# Altium schematic symbol library aiskylab-14Connectors-17HeadersAndWireHousing.SchLib: 206 symbols
Pins are listed as number, name and electrical type; pins without a type are passive.

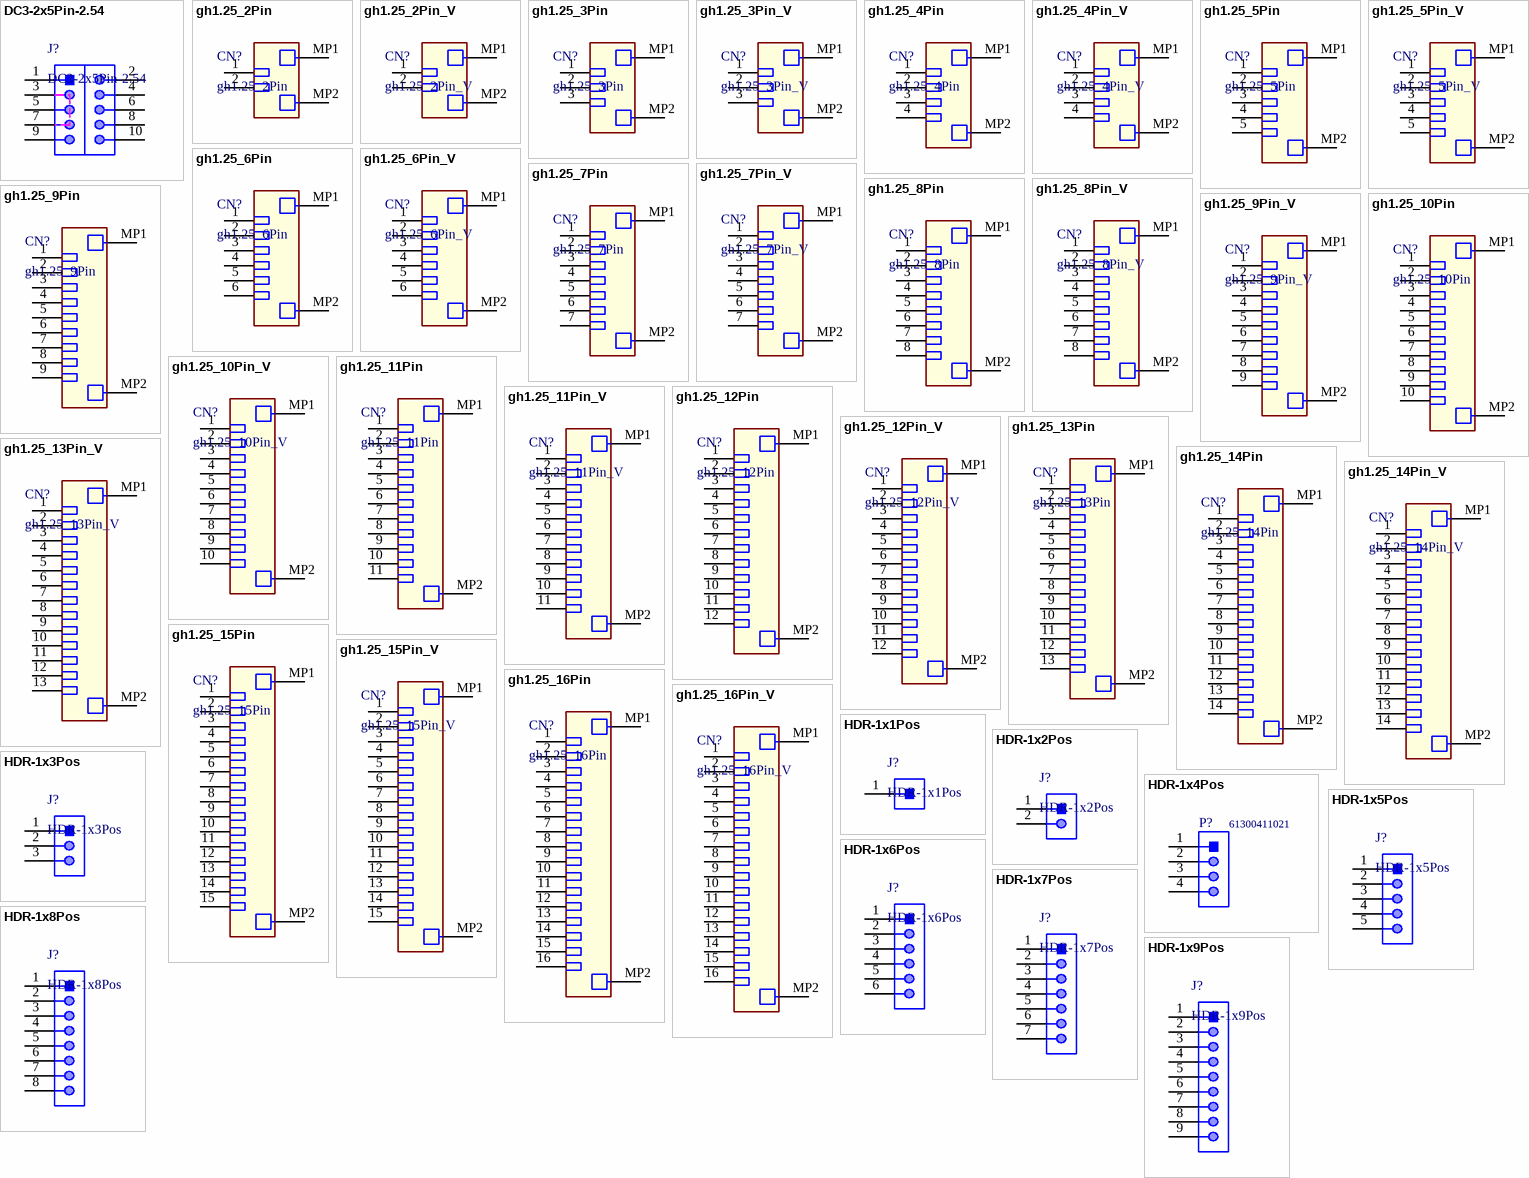
[diagram p0: symbols DC3-2x5Pin-2.54 to HDR-1x9Pos]

## DC3-2x5Pin-2.54
designator J?
2.54mm 双排2x5 10Pin 插座
footprint 3M_2510-6002RB (10 Contacts - Straight .100" x .100" Low Profile Four-Wall Header)
pins: 1, 2, 3, 4, 5, 6, 7, 8, 9, 10

## gh1.25_2Pin
designator CN?
贴片连接器
footprint GH1.25_SMD_R_2Pin
pins: 1, 2, MP1, MP2

## gh1.25_2Pin_V
designator CN?
贴片连接器
footprint GH1.25_SMD_V_2Pin
pins: 1, 2, MP1, MP2

## gh1.25_3Pin
designator CN?
贴片连接器
footprint GH1.25_SMD_R_3Pin
pins: 1, 2, 3, MP1, MP2

## gh1.25_3Pin_V
designator CN?
贴片连接器
footprint GH1.25_SMD_V_3Pin
pins: 1, 2, 3, MP1, MP2

## gh1.25_4Pin
designator CN?
贴片连接器
footprint GH1.25_SMD_R_4Pin
pins: 1, 2, 3, 4, MP1, MP2

## gh1.25_4Pin_V
designator CN?
贴片连接器
footprint GH1.25_SMD_V_4Pin
pins: 1, 2, 3, 4, MP1, MP2

## gh1.25_5Pin
designator CN?
贴片连接器
footprint GH1.25_SMD_R_5Pin
pins: 1, 2, 3, 4, 5, MP1, MP2

## gh1.25_5Pin_V
designator CN?
贴片连接器
footprint GH1.25_SMD_V_5Pin
pins: 1, 2, 3, 4, 5, MP1, MP2

## gh1.25_6Pin
designator CN?
贴片连接器
footprint GH1.25_SMD_R_6Pin
pins: 1, 2, 3, 4, 5, 6, MP1, MP2

## gh1.25_6Pin_V
designator CN?
贴片连接器
footprint GH1.25_SMD_V_6Pin
pins: 1, 2, 3, 4, 5, 6, MP1, MP2

## gh1.25_7Pin
designator CN?
贴片连接器
footprint GH1.25_SMD_R_7Pin
pins: 1, 2, 3, 4, 5, 6, 7, MP1, MP2

## gh1.25_7Pin_V
designator CN?
贴片连接器
footprint GH1.25_SMD_V_7Pin
pins: 1, 2, 3, 4, 5, 6, 7, MP1, MP2

## gh1.25_8Pin
designator CN?
贴片连接器
footprint GH1.25_SMD_R_8Pin
pins: 1, 2, 3, 4, 5, 6, 7, 8, MP1, MP2

## gh1.25_8Pin_V
designator CN?
贴片连接器
footprint GH1.25_SMD_V_8Pin
pins: 1, 2, 3, 4, 5, 6, 7, 8, MP1, MP2

## gh1.25_9Pin
designator CN?
贴片连接器
footprint GH1.25_SMD_R_9Pin
pins: 1, 2, 3, 4, 5, 6, 7, 8, 9, MP1, MP2

## gh1.25_9Pin_V
designator CN?
贴片连接器
footprint GH1.25_SMD_V_9Pin
pins: 1, 2, 3, 4, 5, 6, 7, 8, 9, MP1, MP2

## gh1.25_10Pin
designator CN?
贴片连接器
footprint GH1.25_SMD_R_10Pin
pins: 1, 2, 3, 4, 5, 6, 7, 8, 9, 10, MP1, MP2

## gh1.25_10Pin_V
designator CN?
贴片连接器
footprint GH1.25_SMD_V_10Pin
pins: 1, 2, 3, 4, 5, 6, 7, 8, 9, 10, MP1, MP2

## gh1.25_11Pin
designator CN?
贴片连接器
footprint GH1.25_SMD_R_11Pin
pins: 1, 2, 3, 4, 5, 6, 7, 8, 9, 10, 11, MP1, MP2

## gh1.25_11Pin_V
designator CN?
贴片连接器
footprint GH1.25_SMD_V_11Pin
pins: 1, 2, 3, 4, 5, 6, 7, 8, 9, 10, 11, MP1, MP2

## gh1.25_12Pin
designator CN?
贴片连接器
footprint GH1.25_SMD_R_12Pin
pins: 1, 2, 3, 4, 5, 6, 7, 8, 9, 10, 11, 12, MP1, MP2

## gh1.25_12Pin_V
designator CN?
贴片连接器
footprint GH1.25_SMD_V_12Pin
pins: 1, 2, 3, 4, 5, 6, 7, 8, 9, 10, 11, 12, MP1, MP2

## gh1.25_13Pin
designator CN?
贴片连接器
footprint GH1.25_SMD_R_13Pin
pins: 1, 2, 3, 4, 5, 6, 7, 8, 9, 10, 11, 12, 13, MP1, MP2

## gh1.25_13Pin_V
designator CN?
贴片连接器
footprint GH1.25_SMD_V_14Pin
pins: 1, 2, 3, 4, 5, 6, 7, 8, 9, 10, 11, 12, 13, MP1, MP2

## gh1.25_14Pin
designator CN?
贴片连接器
footprint GH1.25_SMD_R_14Pin
pins: 1, 2, 3, 4, 5, 6, 7, 8, 9, 10, 11, 12, 13, 14, MP1, MP2

## gh1.25_14Pin_V
designator CN?
贴片连接器
footprint GH1.25_SMD_V_14Pin
pins: 1, 2, 3, 4, 5, 6, 7, 8, 9, 10, 11, 12, 13, 14, MP1, MP2

## gh1.25_15Pin
designator CN?
贴片连接器
footprint GH1.25_SMD_R_15Pin
pins: 1, 2, 3, 4, 5, 6, 7, 8, 9, 10, 11, 12, 13, 14, 15, MP1, MP2

## gh1.25_15Pin_V
designator CN?
贴片连接器
footprint GH1.25_SMD_V_15Pin
pins: 1, 2, 3, 4, 5, 6, 7, 8, 9, 10, 11, 12, 13, 14, 15, MP1, MP2

## gh1.25_16Pin
designator CN?
贴片连接器
footprint GH1.25_SMD_R_16Pin
pins: 1, 2, 3, 4, 5, 6, 7, 8, 9, 10, 11, 12, 13, 14, 15, 16, MP1, MP2

## gh1.25_16Pin_V
designator CN?
贴片连接器
footprint GH1.25_SMD_V_16Pin
pins: 1, 2, 3, 4, 5, 6, 7, 8, 9, 10, 11, 12, 13, 14, 15, 16, MP1, MP2

## HDR-1x1Pos
designator J?
2.54mm 排针
footprint Pin Header 1x1 TH Pitch 2.54mm (PinHeader 1x1 TH Pitch 2.54mm)
footprint StampHole-1
pins: 1

## HDR-1x2Pos
designator J?
2.54mm 排针
footprint HDR-2.54-1x2-V (2 Contacts, Pitch 2.54mm - Male Vertical Single row Pc tail)
footprint Pin Header 1x2 TH Pitch 2.54mm (PinHeader 1x2 TH Pitch 2.54mm)
footprint StampHole-2
pins: 1, 2

## HDR-1x3Pos
designator J?
2.54mm 排针
footprint HDR-2.54-1x3-V (2.54mm,3Pos)
footprint Pin Header 1x3 TH Pitch 2.54mm (PinHeader 1x3 TH Pitch 2.54mm)
footprint StampHole-3
pins: 1, 2, 3

## HDR-1x4Pos
designator P?, comment 61300411021
2.54mm 排针; Manufacturer: Wurth Elektronik; Gender: Male; Pin Number: 4; Withstanding Voltage: 500VAC; Row Number: Single; Working Voltage: 250VAC; Contact Resistance: 20mOhm; Rated Current: 3A; Manufacturer URL: http://www.we-online.de; Mounting Technology: THT; Publisher: WurthElektronik; Operating Temperature: -40to105degC; Packaging: Bag; Package Reference: 61300411021; Part Number: 61300411021; Orientation: Angled; Pitch: 2.54mm; Datasheet URL: https://katalog.we-online.de/em/datasheet/6130xx11021.pdf
footprint HDR-2.54-1x4-H (Pin Header, pitch 2.54 mm, THT, Angled, single row, 4p)
footprint HDR-2.54-1x4-VB2B (.025 SQ Post Terminal Strip Assembly, 1x4 Pins, Vertical, 2.54mm Pitch, Male)
footprint HDR-2.54-1x4-V (.025 SQ Post Terminal Strip Assembly, 1x4 Pins, Vertical, 2.54mm Pitch, Male)
footprint Pin Header 1x4 TH Pitch 2.54mm (PinHeader 1x4 TH Pitch 2.54mm)
footprint StampHole-4
pins: 1, 2, 3, 4

## HDR-1x5Pos
designator J?
2.54mm 排针
footprint Pin Header 1x5 TH Pitch 2.54mm (PinHeader 1x5 TH Pitch 2.54mm)
footprint StampHole-5
pins: 1, 2, 3, 4, 5

## HDR-1x6Pos
designator J?
2.54mm 排针
footprint Pin Header 1x6 TH Pitch 2.54mm (PinHeader 1x6 TH Pitch 2.54mm)
footprint StampHole-6
pins: 1, 2, 3, 4, 5, 6

## HDR-1x7Pos
designator J?
2.54mm 排针
footprint Pin Header 1x7 TH Pitch 2.54mm (PinHeader 1x7 TH Pitch 2.54mm)
footprint StampHole-7
pins: 1, 2, 3, 4, 5, 6, 7

## HDR-1x8Pos
designator J?
2.54mm 排针
footprint Pin Header 1x8 TH Pitch 2.54mm (PinHeader 1x8 TH Pitch 2.54mm)
footprint StampHole-8
pins: 1, 2, 3, 4, 5, 6, 7, 8

## HDR-1x9Pos
designator J?
2.54mm 排针
footprint Pin Header 1x9 TH Pitch 2.54mm (PinHeader 1x9 TH Pitch 2.54mm)
footprint StampHole-9
pins: 1, 2, 3, 4, 5, 6, 7, 8, 9

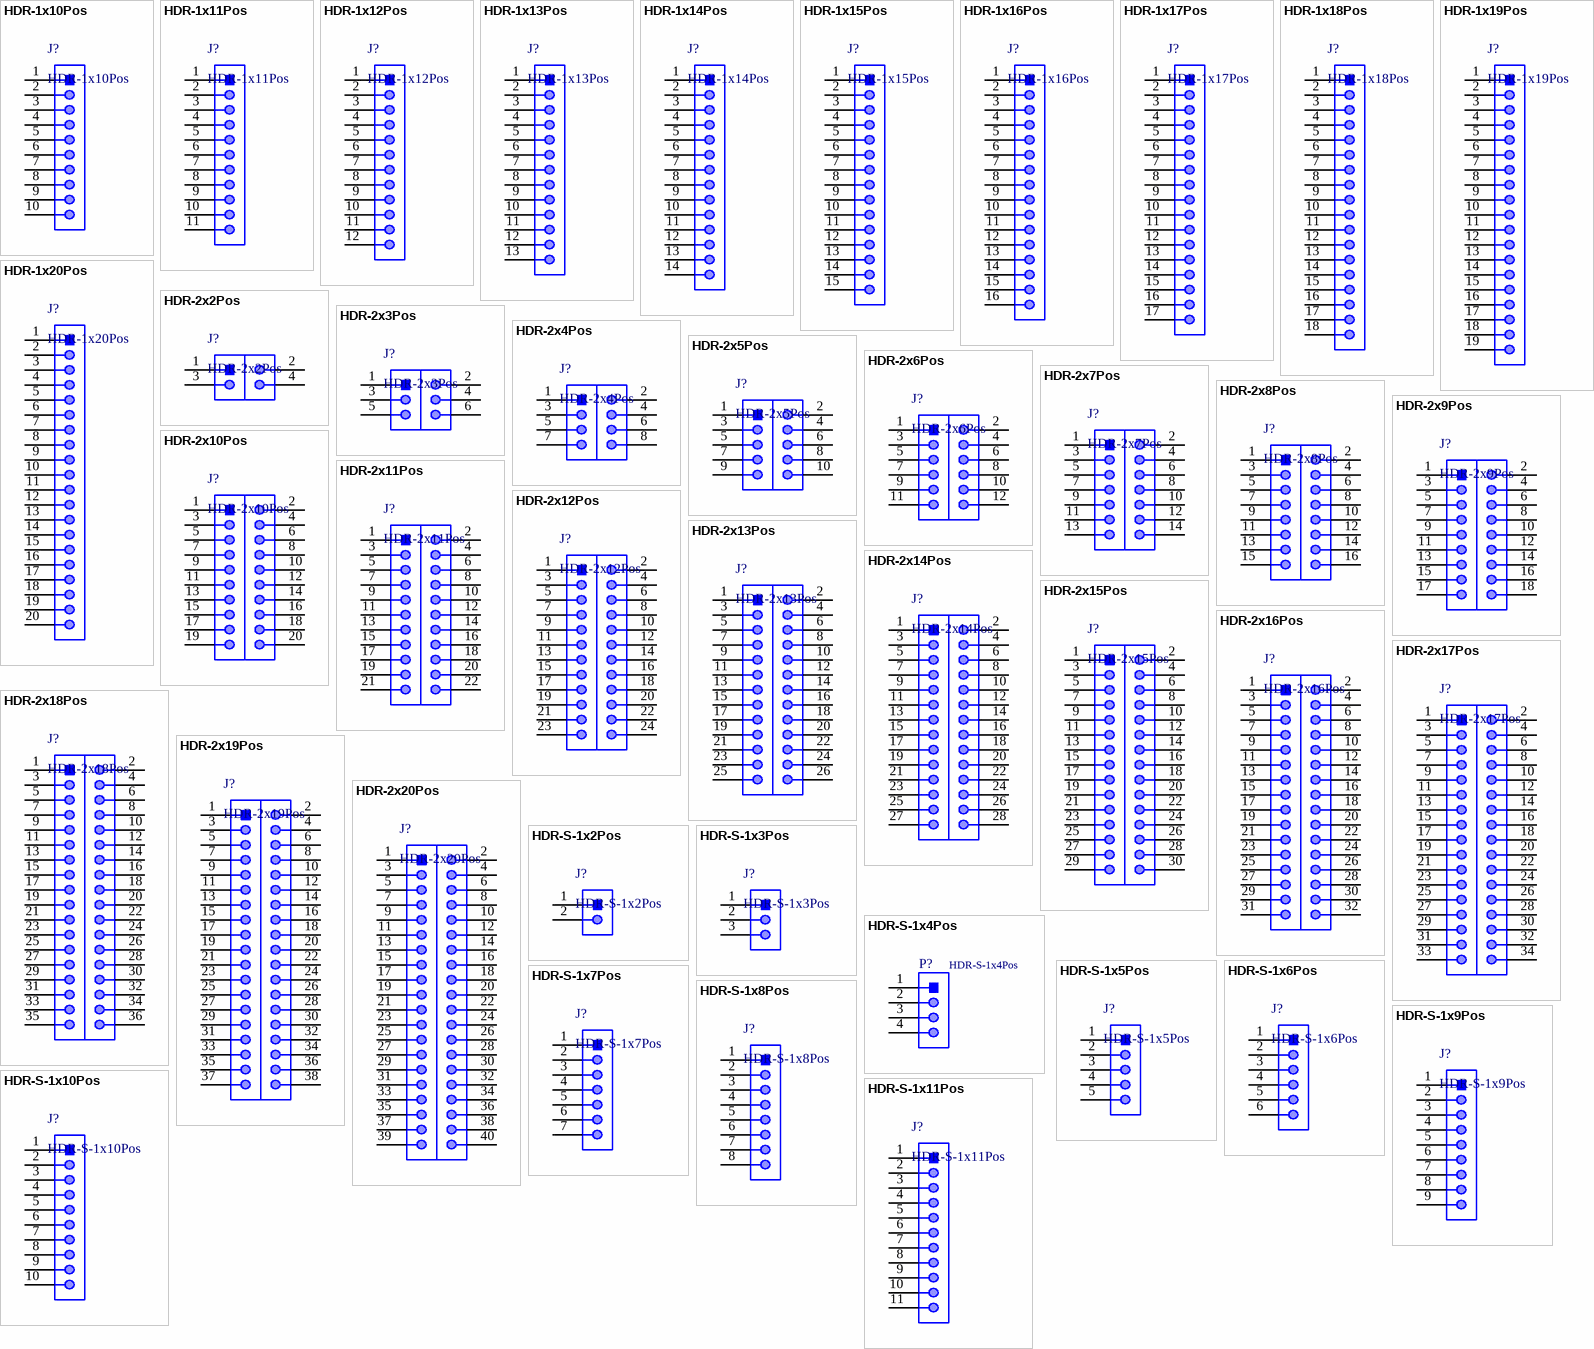
[diagram p1: symbols HDR-1x10Pos to HDR-S-1x11Pos]

## HDR-1x10Pos
designator J?
2.54mm 排针
footprint Pin Header 1x10 TH Pitch 2.54mm (PinHeader 1x10 TH Pitch 2.54mm)
footprint StampHole-10
pins: 1, 2, 3, 4, 5, 6, 7, 8, 9, 10

## HDR-1x11Pos
designator J?
2.54mm 排针
footprint Pin Header 1x11 TH Pitch 2.54mm (PinHeader 1x11 TH Pitch 2.54mm)
footprint StampHole-11
pins: 1, 2, 3, 4, 5, 6, 7, 8, 9, 10, 11

## HDR-1x12Pos
designator J?
2.54mm 排针
footprint Pin Header 1x12 TH Pitch 2.54mm (PinHeader 1x12 TH Pitch 2.54mm)
footprint StampHole-12
pins: 1, 2, 3, 4, 5, 6, 7, 8, 9, 10, 11, 12

## HDR-1x13Pos
designator J?
2.54mm 排针
footprint Pin Header 1x13 TH Pitch 2.54mm (PinHeader 1x13 TH Pitch 2.54mm)
footprint StampHole-13
pins: 1, 2, 3, 4, 5, 6, 7, 8, 9, 10, 11, 12, 13

## HDR-1x14Pos
designator J?
2.54mm 排针
footprint Pin Header 1x14 TH Pitch 2.54mm (PinHeader 1x14 TH Pitch 2.54mm)
footprint StampHole-14
pins: 1, 2, 3, 4, 5, 6, 7, 8, 9, 10, 11, 12, 13, 14

## HDR-1x15Pos
designator J?
2.54mm 排针
footprint Pin Header 1x15 TH Pitch 2.54mm (PinHeader 1x15 TH Pitch 2.54mm)
footprint StampHole-15
pins: 1, 2, 3, 4, 5, 6, 7, 8, 9, 10, 11, 12, 13, 14, 15

## HDR-1x16Pos
designator J?
2.54mm 排针
footprint Pin Header 1x16 TH Pitch 2.54mm (PinHeader 1x16 TH Pitch 2.54mm)
footprint StampHole-16
pins: 1, 2, 3, 4, 5, 6, 7, 8, 9, 10, 11, 12, 13, 14, 15, 16

## HDR-1x17Pos
designator J?
2.54mm 排针
footprint StampHole-17
pins: 1, 2, 3, 4, 5, 6, 7, 8, 9, 10, 11, 12, 13, 14, 15, 16, 17

## HDR-1x18Pos
designator J?
2.54mm 排针
footprint StampHole-18
pins: 1, 2, 3, 4, 5, 6, 7, 8, 9, 10, 11, 12, 13, 14, 15, 16, 17, 18

## HDR-1x19Pos
designator J?
2.54mm 排针
footprint StampHole-19
pins: 1, 2, 3, 4, 5, 6, 7, 8, 9, 10, 11, 12, 13, 14, 15, 16, 17, 18, 19

## HDR-1x20Pos
designator J?
2.54mm 排针
footprint HDR-2.54-1x20-V (20 Contact 2.54mm Pitch Single-In-Line Header Strip - Top Pin ?.46mm - Bottom Pin ?.69mm)
footprint StampHole-20
pins: 1, 2, 3, 4, 5, 6, 7, 8, 9, 10, 11, 12, 13, 14, 15, 16, 17, 18, 19, 20

## HDR-2x2Pos
designator J?
2.54mm 排针
footprint HDR-2.54-2x2-V (4 Contacts - Pitch 2.54mm - Dual Row Straight Strip Header - Insulator 1.7mm)
pins: 1, 2, 3, 4

## HDR-2x3Pos
designator J?
2.54mm 排针
footprint HDR-2.54-2x3-V (6 Contacts - Pitch 2.54mm - Dual Row Straight Strip Header - Insulator 1.7mm)
pins: 1, 2, 3, 4, 5, 6

## HDR-2x4Pos
designator J?
2.54mm 排针
footprint HDR-2.54-2x4-V (8 Contacts - Pitch 2.54mm - Dual Row Straight Strip Header - Insulator 1.7mm)
pins: 1, 2, 3, 4, 5, 6, 7, 8

## HDR-2x5Pos
designator J?
2.54mm 排针
footprint M20N-2X05-2.54
pins: 1, 2, 3, 4, 5, 6, 7, 8, 9, 10

## HDR-2x6Pos
designator J?
2.54mm 排针
footprint M20N-2X06-2.54
pins: 1, 2, 3, 4, 5, 6, 7, 8, 9, 10, 11, 12

## HDR-2x7Pos
designator J?
2.54mm 排针
footprint M20N-2X07-2.54
pins: 1, 2, 3, 4, 5, 6, 7, 8, 9, 10, 11, 12, 13, 14

## HDR-2x8Pos
designator J?
2.54mm 排针
footprint M20N-2X08-2.54
pins: 1, 2, 3, 4, 5, 6, 7, 8, 9, 10, 11, 12, 13, 14, 15, 16

## HDR-2x9Pos
designator J?
2.54mm 排针
footprint M20N-2X09-2.54
pins: 1, 2, 3, 4, 5, 6, 7, 8, 9, 10, 11, 12, 13, 14, 15, 16, 17, 18

## HDR-2x10Pos
designator J?
2.54mm 排针
footprint M20N-2X10-2.54
pins: 1, 2, 3, 4, 5, 6, 7, 8, 9, 10, 11, 12, 13, 14, 15, 16, 17, 18, 19, 20

## HDR-2x11Pos
designator J?
2.54mm 排针
footprint M20N-2X11-2.54
pins: 1, 2, 3, 4, 5, 6, 7, 8, 9, 10, 11, 12, 13, 14, 15, 16, 17, 18, 19, 20, 21, 22

## HDR-2x12Pos
designator J?
2.54mm 排针
footprint M20N-2X12-2.54
pins: 1, 2, 3, 4, 5, 6, 7, 8, 9, 10, 11, 12, 13, 14, 15, 16, 17, 18, 19, 20, 21, 22, 23, 24

## HDR-2x13Pos
designator J?
2.54mm 排针
footprint M20N-2X13-2.54
pins: 1, 2, 3, 4, 5, 6, 7, 8, 9, 10, 11, 12, 13, 14, 15, 16, 17, 18, 19, 20, 21, 22, 23, 24, 25, 26

## HDR-2x14Pos
designator J?
2.54mm 排针
footprint M20N-2X14-2.54
pins: 1, 2, 3, 4, 5, 6, 7, 8, 9, 10, 11, 12, 13, 14, 15, 16, 17, 18, 19, 20, 21, 22, 23, 24, 25, 26, 27, 28

## HDR-2x15Pos
designator J?
2.54mm 排针
footprint M20N-2X15-2.54
pins: 1, 2, 3, 4, 5, 6, 7, 8, 9, 10, 11, 12, 13, 14, 15, 16, 17, 18, 19, 20, 21, 22, 23, 24, 25, 26, 27, 28, 29, 30

## HDR-2x16Pos
designator J?
2.54mm 排针
footprint M20N-2X16-2.54
pins: 1, 2, 3, 4, 5, 6, 7, 8, 9, 10, 11, 12, 13, 14, 15, 16, 17, 18, 19, 20, 21, 22, 23, 24, 25, 26, 27, 28, 29, 30, 31, 32

## HDR-2x17Pos
designator J?
2.54mm 排针
footprint M20N-2X17-2.54
pins: 1, 2, 3, 4, 5, 6, 7, 8, 9, 10, 11, 12, 13, 14, 15, 16, 17, 18, 19, 20, 21, 22, 23, 24, 25, 26, 27, 28, 29, 30, 31, 32, 33, 34

## HDR-2x18Pos
designator J?
2.54mm 排针
footprint M20N-2X18-2.54
pins: 1, 2, 3, 4, 5, 6, 7, 8, 9, 10, 11, 12, 13, 14, 15, 16, 17, 18, 19, 20, 21, 22, 23, 24, 25, 26, 27, 28, 29, 30, 31, 32, 33, 34, 35, 36

## HDR-2x19Pos
designator J?
2.54mm 排针
footprint M20N-2X19-2.54
pins: 1, 2, 3, 4, 5, 6, 7, 8, 9, 10, 11, 12, 13, 14, 15, 16, 17, 18, 19, 20, 21, 22, 23, 24, 25, 26, 27, 28, 29, 30, 31, 32, 33, 34, 35, 36, 37, 38

## HDR-2x20Pos
designator J?
2.54mm 排针
footprint M20N-2X20-2.54
pins: 1, 2, 3, 4, 5, 6, 7, 8, 9, 10, 11, 12, 13, 14, 15, 16, 17, 18, 19, 20, 21, 22, 23, 24, 25, 26, 27, 28, 29, 30, 31, 32, 33, 34, 35, 36, 37, 38, 39, 40

## HDR-S-1x2Pos
designator J?
2.54mm 排座
footprint HX-2.54-F-1x2-V (2 Contacts, Pitch 2.54mm - Male Vertical Single row Pc tail)
pins: 1, 2

## HDR-S-1x3Pos
designator J?
2.54mm 排座
footprint HX-2.54-F-1x3-V (2.54mm,3Pos)
pins: 1, 2, 3

## HDR-S-1x4Pos
designator P?
2.54mm 排座; Manufacturer: Wurth Elektronik; Part Number: 61300411021; Gender: Male; Pin Number: 4; Withstanding Voltage: 500VAC; Row Number: Single; Working Voltage: 250VAC; Contact Resistance: 20mOhm; Rated Current: 3A; Manufacturer URL: http://www.we-online.de; Mounting Technology: THT; Publisher: WurthElektronik; Operating Temperature: -40to105degC; Packaging: Bag; Package Reference: 61300411021; Orientation: Angled; Pitch: 2.54mm; Datasheet URL: https://katalog.we-online.de/em/datasheet/6130xx11021.pdf
footprint HX-2.54-F-1x4-V (.025 SQ Post Terminal Strip Assembly, 1x4 Pins, Vertical, 2.54mm Pitch, Male)
pins: 1, 2, 3, 4

## HDR-S-1x5Pos
designator J?
2.54mm 排座
footprint HX-2.54-F-1x5-V
pins: 1, 2, 3, 4, 5

## HDR-S-1x6Pos
designator J?
2.54mm 排座
footprint HX-2.54-F-1x6-V (PinHeader 1x6 TH Pitch 2.54mm)
pins: 1, 2, 3, 4, 5, 6

## HDR-S-1x7Pos
designator J?
2.54mm 排座
footprint HX-2.54-F-1x7-V (PinHeader 1x7 TH Pitch 2.54mm)
pins: 1, 2, 3, 4, 5, 6, 7

## HDR-S-1x8Pos
designator J?
2.54mm 排座
footprint HX-2.54-F-1x8-V (PinHeader 1x8 TH Pitch 2.54mm)
pins: 1, 2, 3, 4, 5, 6, 7, 8

## HDR-S-1x9Pos
designator J?
2.54mm 排座
footprint HX-2.54-F-1x9-V (PinHeader 1x9 TH Pitch 2.54mm)
pins: 1, 2, 3, 4, 5, 6, 7, 8, 9

## HDR-S-1x10Pos
designator J?
2.54mm 排座
footprint HX-2.54-F-1x10-V (PinHeader 1x10 TH Pitch 2.54mm)
pins: 1, 2, 3, 4, 5, 6, 7, 8, 9, 10

## HDR-S-1x11Pos
designator J?
2.54mm 排座
footprint HX-2.54-F-1x11-V (PinHeader 1x11 TH Pitch 2.54mm)
pins: 1, 2, 3, 4, 5, 6, 7, 8, 9, 10, 11

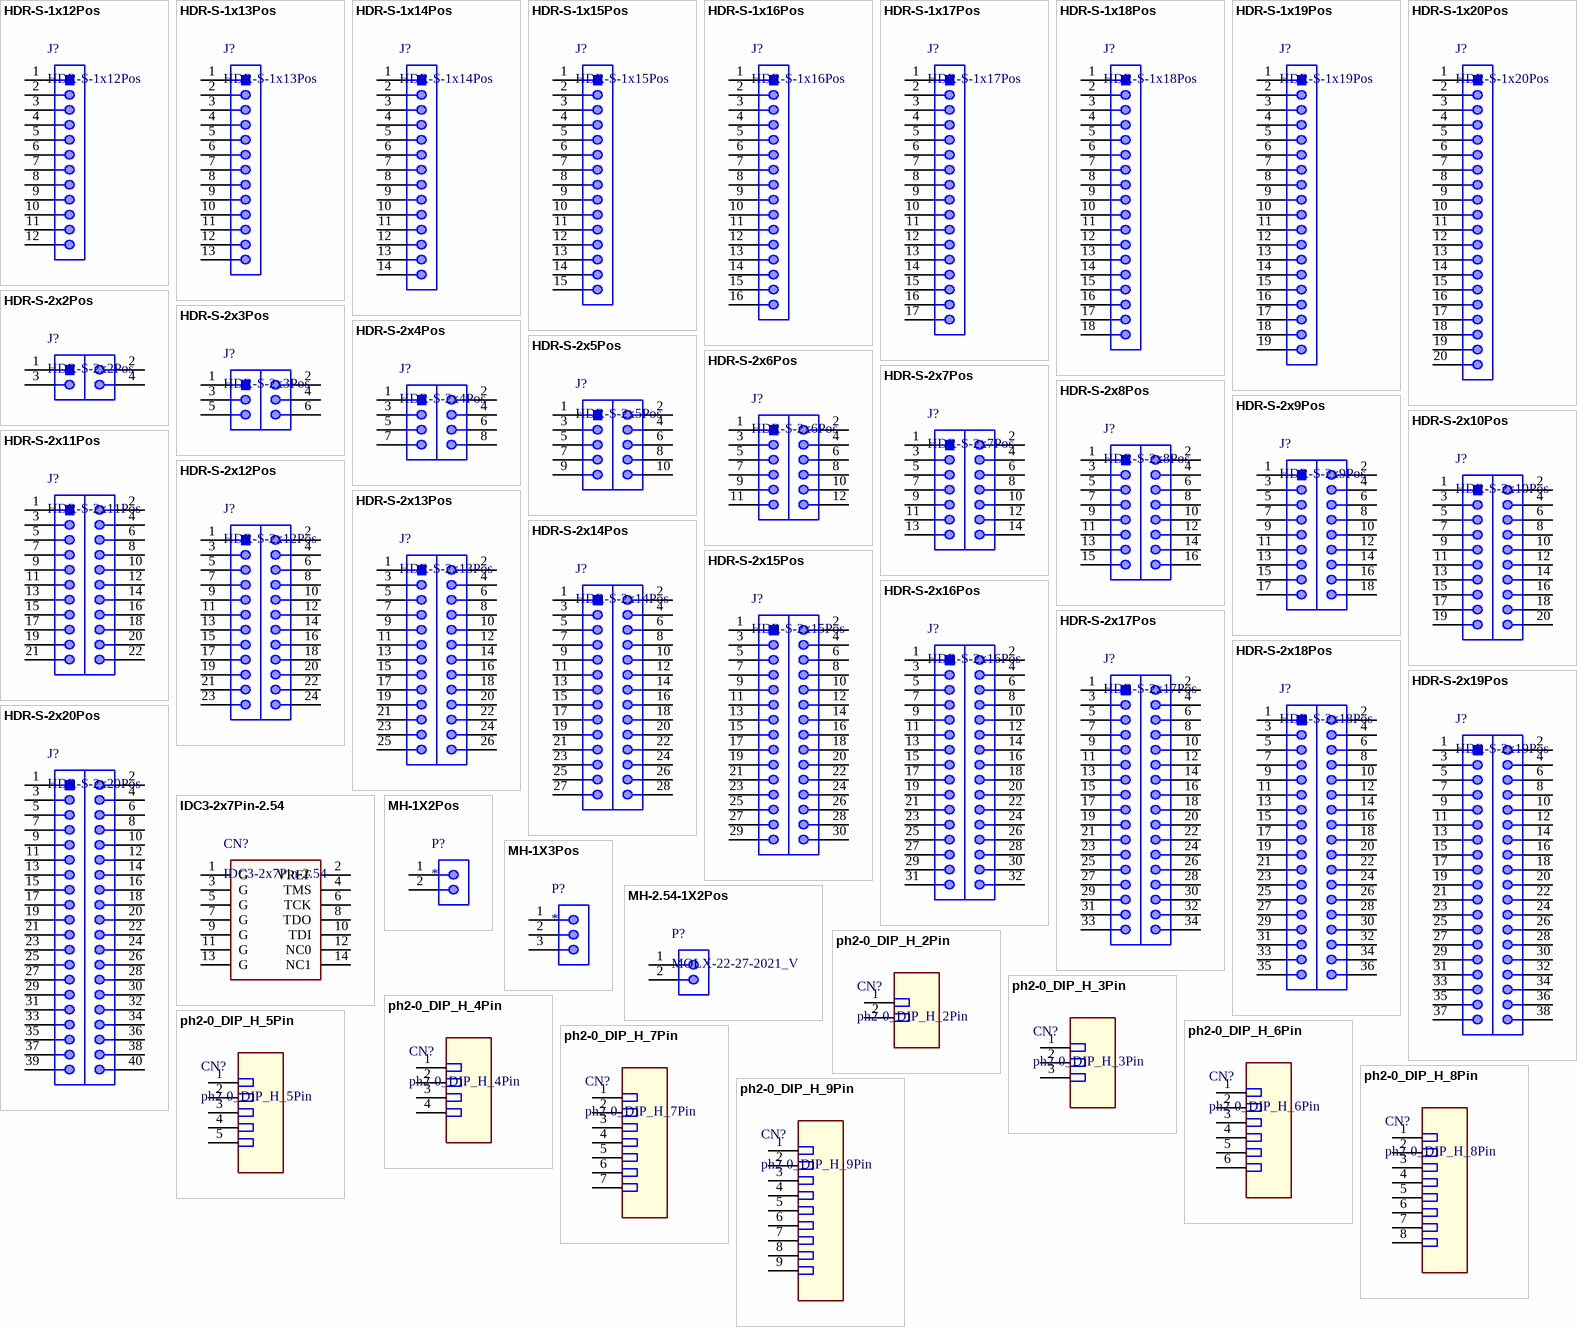
[diagram p2: symbols HDR-S-1x12Pos to ph2-0_DIP_H_9Pin]

## HDR-S-1x12Pos
designator J?
2.54mm 排座
footprint HX-2.54-F-1x12-V (PinHeader 1x12 TH Pitch 2.54mm)
pins: 1, 2, 3, 4, 5, 6, 7, 8, 9, 10, 11, 12

## HDR-S-1x13Pos
designator J?
2.54mm 排座
footprint HX-2.54-F-1x13-V (PinHeader 1x13 TH Pitch 2.54mm)
pins: 1, 2, 3, 4, 5, 6, 7, 8, 9, 10, 11, 12, 13

## HDR-S-1x14Pos
designator J?
2.54mm 排座
footprint HX-2.54-F-1x14-V (PinHeader 1x14 TH Pitch 2.54mm)
pins: 1, 2, 3, 4, 5, 6, 7, 8, 9, 10, 11, 12, 13, 14

## HDR-S-1x15Pos
designator J?
2.54mm 排座
footprint HX-2.54-F-1x15-V (PinHeader 1x15 TH Pitch 2.54mm)
pins: 1, 2, 3, 4, 5, 6, 7, 8, 9, 10, 11, 12, 13, 14, 15

## HDR-S-1x16Pos
designator J?
2.54mm 排座
footprint HX-2.54-F-1x16-V (PinHeader 1x16 TH Pitch 2.54mm)
pins: 1, 2, 3, 4, 5, 6, 7, 8, 9, 10, 11, 12, 13, 14, 15, 16

## HDR-S-1x17Pos
designator J?
2.54mm 排座
footprint HX-2.54-F-1x17-V
pins: 1, 2, 3, 4, 5, 6, 7, 8, 9, 10, 11, 12, 13, 14, 15, 16, 17

## HDR-S-1x18Pos
designator J?
2.54mm 排座
footprint HX-2.54-F-1x18-V
pins: 1, 2, 3, 4, 5, 6, 7, 8, 9, 10, 11, 12, 13, 14, 15, 16, 17, 18

## HDR-S-1x19Pos
designator J?
2.54mm 排座
footprint HX-2.54-F-1x19-V
pins: 1, 2, 3, 4, 5, 6, 7, 8, 9, 10, 11, 12, 13, 14, 15, 16, 17, 18, 19

## HDR-S-1x20Pos
designator J?
2.54mm 排座
footprint HX-2.54-F-1x20-V
pins: 1, 2, 3, 4, 5, 6, 7, 8, 9, 10, 11, 12, 13, 14, 15, 16, 17, 18, 19, 20

## HDR-S-2x2Pos
designator J?
2.54mm 排座
footprint M20S-2X02-2.54
pins: 1, 2, 3, 4

## HDR-S-2x3Pos
designator J?
2.54mm 排座
footprint M20S-2X03-2.54
pins: 1, 2, 3, 4, 5, 6

## HDR-S-2x4Pos
designator J?
2.54mm 排座
footprint M20S-2X04-2.54
pins: 1, 2, 3, 4, 5, 6, 7, 8

## HDR-S-2x5Pos
designator J?
2.54mm 排座
footprint M20S-2X05-2.54
pins: 1, 2, 3, 4, 5, 6, 7, 8, 9, 10

## HDR-S-2x6Pos
designator J?
2.54mm 排座
footprint M20S-2X06-2.54
pins: 1, 2, 3, 4, 5, 6, 7, 8, 9, 10, 11, 12

## HDR-S-2x7Pos
designator J?
2.54mm 排座
footprint M20S-2X07-2.54
pins: 1, 2, 3, 4, 5, 6, 7, 8, 9, 10, 11, 12, 13, 14

## HDR-S-2x8Pos
designator J?
2.54mm 排座
footprint M20S-2X08-2.54
pins: 1, 2, 3, 4, 5, 6, 7, 8, 9, 10, 11, 12, 13, 14, 15, 16

## HDR-S-2x9Pos
designator J?
2.54mm 排座
footprint M20S-2X09-2.54
pins: 1, 2, 3, 4, 5, 6, 7, 8, 9, 10, 11, 12, 13, 14, 15, 16, 17, 18

## HDR-S-2x10Pos
designator J?
2.54mm 排座
footprint M20S-2X10-2.54
pins: 1, 2, 3, 4, 5, 6, 7, 8, 9, 10, 11, 12, 13, 14, 15, 16, 17, 18, 19, 20

## HDR-S-2x11Pos
designator J?
2.54mm 排座
footprint M20S-2X11-2.54
pins: 1, 2, 3, 4, 5, 6, 7, 8, 9, 10, 11, 12, 13, 14, 15, 16, 17, 18, 19, 20, 21, 22

## HDR-S-2x12Pos
designator J?
2.54mm 排座
footprint M20S-2X12-2.54
pins: 1, 2, 3, 4, 5, 6, 7, 8, 9, 10, 11, 12, 13, 14, 15, 16, 17, 18, 19, 20, 21, 22, 23, 24

## HDR-S-2x13Pos
designator J?
2.54mm 排座
footprint M20S-2X13-2.54
pins: 1, 2, 3, 4, 5, 6, 7, 8, 9, 10, 11, 12, 13, 14, 15, 16, 17, 18, 19, 20, 21, 22, 23, 24, 25, 26

## HDR-S-2x14Pos
designator J?
2.54mm 排座
footprint M20S-2X14-2.54
pins: 1, 2, 3, 4, 5, 6, 7, 8, 9, 10, 11, 12, 13, 14, 15, 16, 17, 18, 19, 20, 21, 22, 23, 24, 25, 26, 27, 28

## HDR-S-2x15Pos
designator J?
2.54mm 排座
footprint M20S-2X15-2.54
pins: 1, 2, 3, 4, 5, 6, 7, 8, 9, 10, 11, 12, 13, 14, 15, 16, 17, 18, 19, 20, 21, 22, 23, 24, 25, 26, 27, 28, 29, 30

## HDR-S-2x16Pos
designator J?
2.54mm 排座
footprint M20S-2X16-2.54
pins: 1, 2, 3, 4, 5, 6, 7, 8, 9, 10, 11, 12, 13, 14, 15, 16, 17, 18, 19, 20, 21, 22, 23, 24, 25, 26, 27, 28, 29, 30, 31, 32

## HDR-S-2x17Pos
designator J?
2.54mm 排座
footprint M20S-2X17-2.54
pins: 1, 2, 3, 4, 5, 6, 7, 8, 9, 10, 11, 12, 13, 14, 15, 16, 17, 18, 19, 20, 21, 22, 23, 24, 25, 26, 27, 28, 29, 30, 31, 32, 33, 34

## HDR-S-2x18Pos
designator J?
2.54mm 排座
footprint M20S-2X18-2.54
pins: 1, 2, 3, 4, 5, 6, 7, 8, 9, 10, 11, 12, 13, 14, 15, 16, 17, 18, 19, 20, 21, 22, 23, 24, 25, 26, 27, 28, 29, 30, 31, 32, 33, 34, 35, 36

## HDR-S-2x19Pos
designator J?
2.54mm 排座
footprint M20S-2X19-2.54
pins: 1, 2, 3, 4, 5, 6, 7, 8, 9, 10, 11, 12, 13, 14, 15, 16, 17, 18, 19, 20, 21, 22, 23, 24, 25, 26, 27, 28, 29, 30, 31, 32, 33, 34, 35, 36, 37, 38

## HDR-S-2x20Pos
designator J?
2.54mm 排座
footprint M20S-2X20-2.54
pins: 1, 2, 3, 4, 5, 6, 7, 8, 9, 10, 11, 12, 13, 14, 15, 16, 17, 18, 19, 20, 21, 22, 23, 24, 25, 26, 27, 28, 29, 30, 31, 32, 33, 34, 35, 36, 37, 38, 39, 40

## IDC3-2x7Pin-2.54
designator CN?
14Pin 牛角插座
footprint 3M_2514-6002RB (14 Contacts - Straight .100" x .100" Low Profile Four-Wall Header)
pins: 1 G, 2 VREF, 3 G, 4 TMS, 5 G, 6 TCK, 7 G, 8 TDO, 9 G, 10 TDI, 11 G, 12 NC0, 13 G, 14 NC1

## MH-1X2Pos
designator P?
FootPrint self define; Value: *
footprint B2P-VH (VH Connector , Pitch 3.96mm)
footprint MOLEX_22-05-7028 (2.54mm (.100") Pitch KK?Wire-To-Board Header, Right Angle, With Friction Lock, 2 Circuits)
footprint MOLEX_26-60-4020 (3.96mm (.156") Pitch KK?Solid Header, Vertical, Friction Lock, 2 Circuits, Tin (Sn) Plating)
footprint WEIDMULLER_1605070000 (10A 300 V, Pitch 3.5mm, 2 Positions PCB Right Angle Header, BL/SL 3.50 Serie)
pins: 1, 2

## MH-1X3Pos
designator P?
FootPrint self define; Value: *
footprint WEIDMULLER_1605080000 (10A 300 V, Pitch 3.5mm, 3 Positions PCB Right Angle Header, BL/SL 3.50 Serie)
footprint B3P-VH
footprint MOLEX_22-05-7038 (2.54mm (.100") Pitch KK?Wire-To-Board Header, Right Angle, With Friction Lock, 3 Circuits)
pins: 1, 2, 3

## MH-2.54-1X2Pos
designator P?, comment MOLX-22-27-2021_V
Male Header, Pitch 2.54 mm, 1 x 2 Position, Height 11.7 mm, Tail Length 3.56 mm, 0 to 75 degC, RoHS, Bulk; Manufacturer: Molex; PartNumber: 0022272021; Current rating: 4A; Package Version: Rev. BC, 02/2012; Voltage rating: 250V; No. of Positions: 2; Pitch: 2.54mm; No. of Rows: 1; Orientation: Vertical; Operating temperature: 0°Cto+75°C; Manufacturer URL: http://www.molex.com/; Mounting Technology: ThroughHole; Housing material: Nylon(UL94V-0); Package Description: 2-Leads Header, Body 5.08 x 5.8 mm, Pitch 2.54 mm; Voltage - Max: 250V; Datasheet URL: http://www.molex.com/pdm_docs/sd/022272021_sd.pdf; Package Reference: 22-27-2021; Contact material: Tinplatedbrass; Current - Max: 4A; Datasheet Version: Rev. F, 06/2009
footprint MOLX-22-27-2021_V (Header, 2-Leads, Body 5.8x5.08mm)
pins: 1, 2

## ph2-0_DIP_H_2Pin
designator CN?
2.0mm直插-水平
footprint PH2.0-WI-2P (长：5.9mm，宽：6mm，高：4.7mm)
pins: 1, 2

## ph2-0_DIP_H_3Pin
designator CN?
2.0mm直插-水平
footprint PH2.0-WI-3P (长：7.9mm，宽：6mm，高：4.7mm)
pins: 1, 2, 3

## ph2-0_DIP_H_4Pin
designator CN?
2.0mm直插-水平
footprint PH2.0-WI-4P (长：9.9mm，宽：6mm，高：4.7mm)
pins: 1, 2, 3, 4

## ph2-0_DIP_H_5Pin
designator CN?
2.0mm直插-水平
footprint PH2.0-WI-5P (长：11.9mm，宽：6mm，高：4.7mm)
pins: 1, 2, 3, 4, 5

## ph2-0_DIP_H_6Pin
designator CN?
2.0mm直插-水平
footprint PH2.0-WI-6P (长：13.9mm，宽：6mm，高：4.7mm)
pins: 1, 2, 3, 4, 5, 6

## ph2-0_DIP_H_7Pin
designator CN?
2.0mm直插-水平
footprint PH2.0-WI-7P (长：15.9mm，宽：6mm，高：4.7mm)
pins: 1, 2, 3, 4, 5, 6, 7

## ph2-0_DIP_H_8Pin
designator CN?
2.0mm直插-水平
footprint PH2.0-WI-8P (长：17.9mm，宽：6mm，高：4.7mm)
pins: 1, 2, 3, 4, 5, 6, 7, 8

## ph2-0_DIP_H_9Pin
designator CN?
2.0mm直插-水平
footprint PH2.0-WI-9P (长：19.9mm，宽：6mm，高：4.7mm)
pins: 1, 2, 3, 4, 5, 6, 7, 8, 9

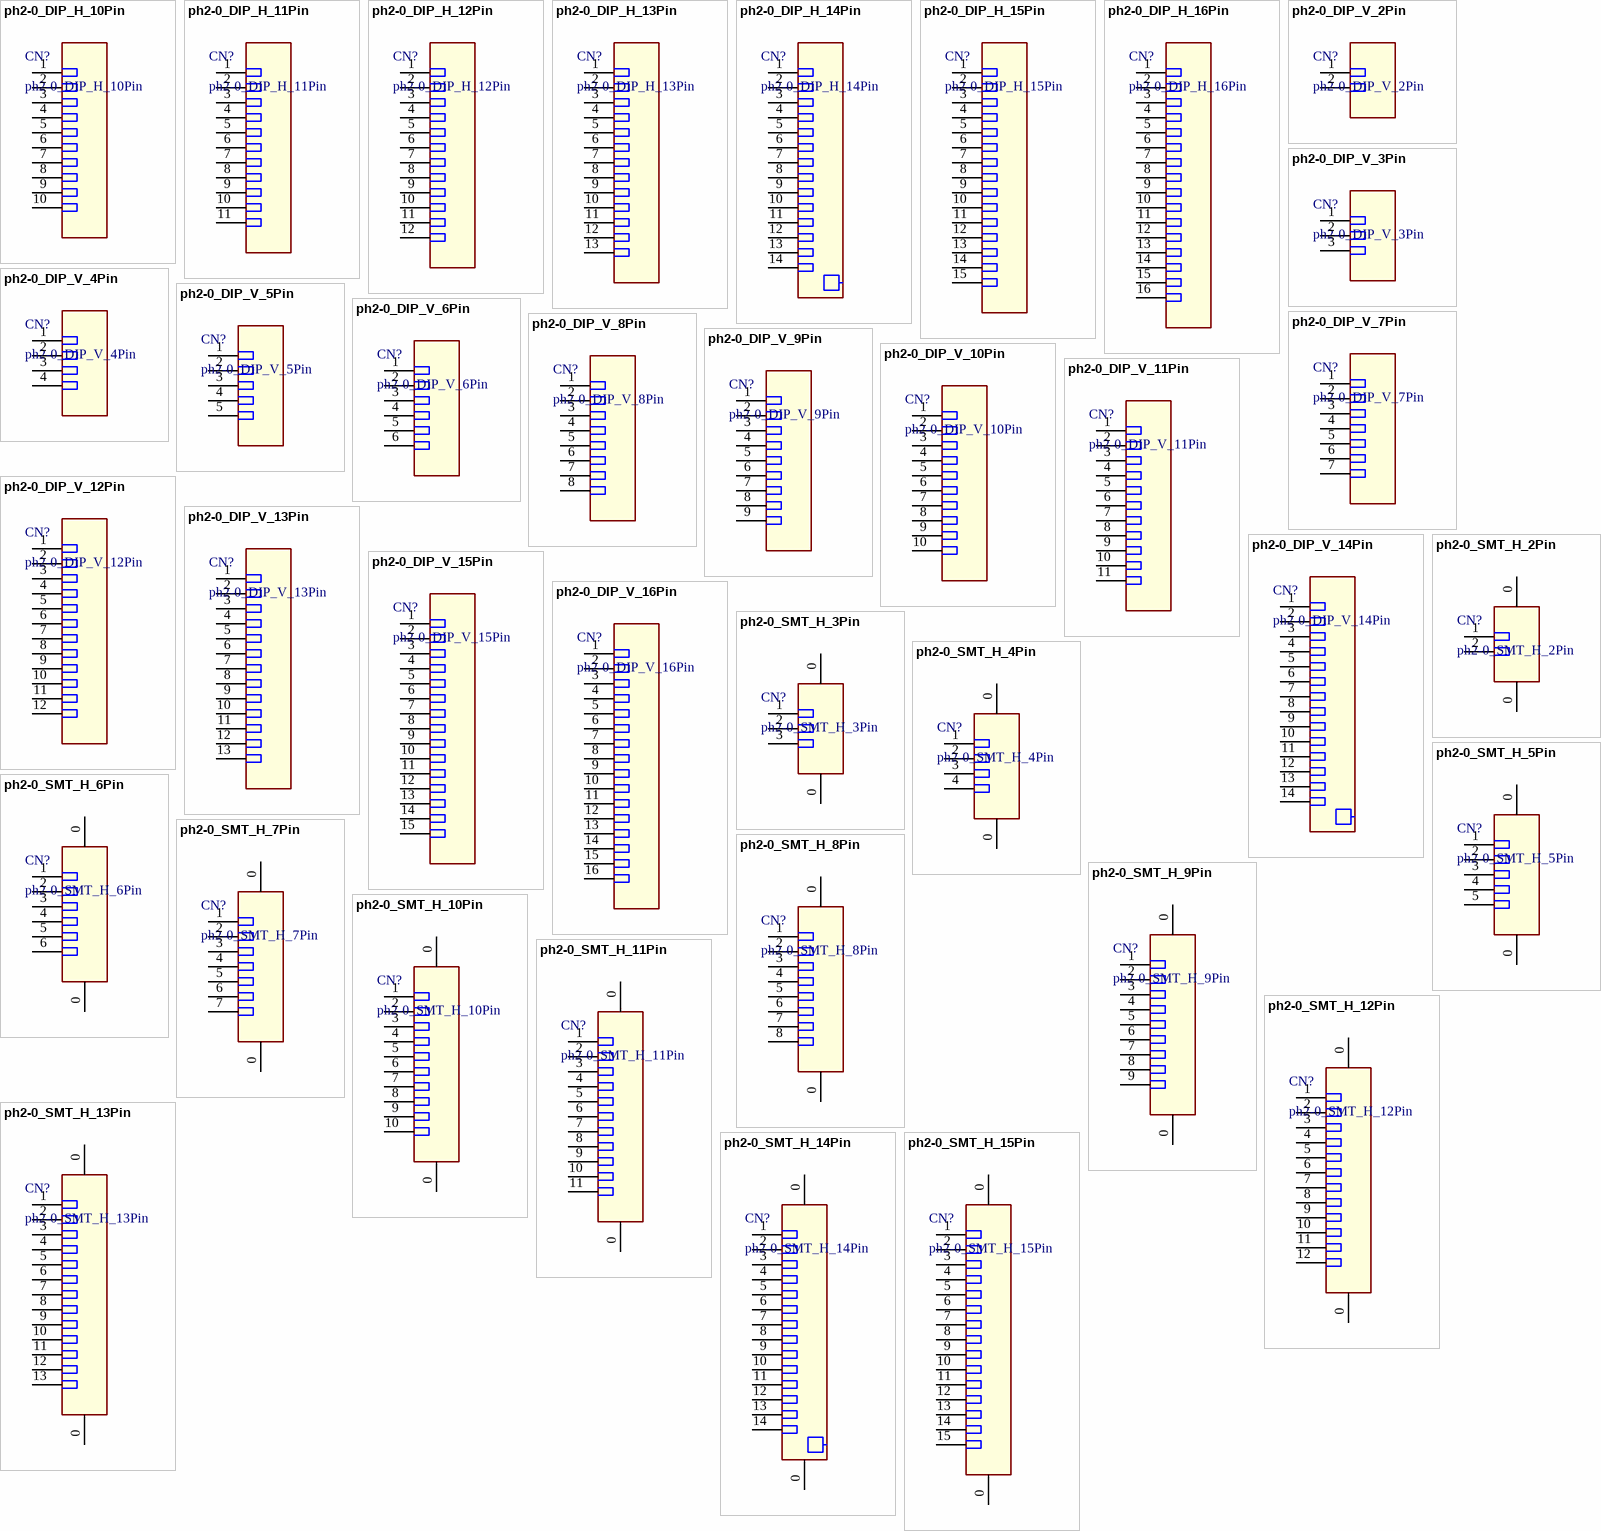
[diagram p3: symbols ph2-0_DIP_H_10Pin to ph2-0_SMT_H_15Pin]

## ph2-0_DIP_H_10Pin
designator CN?
2.0mm直插-水平
footprint PH2.0-WI-10P (长：21.9mm，宽：6mm，高：4.7mm)
pins: 1, 2, 3, 4, 5, 6, 7, 8, 9, 10

## ph2-0_DIP_H_11Pin
designator CN?
2.0mm直插-水平
footprint PH2.0-WI-11P (长：23.9mm，宽：6mm，高：4.7mm)
pins: 1, 2, 3, 4, 5, 6, 7, 8, 9, 10, 11

## ph2-0_DIP_H_12Pin
designator CN?
2.0mm直插-水平
footprint PH2.0-WI-12P (长：25.9mm，宽：6mm，高：4.7mm)
pins: 1, 2, 3, 4, 5, 6, 7, 8, 9, 10, 11, 12

## ph2-0_DIP_H_13Pin
designator CN?
2.0mm直插-水平
footprint PH2.0-WI-13P (长：27.9mm，宽：6mm，高：4.7mm)
pins: 1, 2, 3, 4, 5, 6, 7, 8, 9, 10, 11, 12, 13

## ph2-0_DIP_H_14Pin
designator CN?
2.0mm直插-水平
footprint PH2.0-WI-14p (长：29.9mm，宽：6mm，高：4.7mm)
pins: 1, 2, 3, 4, 5, 6, 7, 8, 9, 10, 11, 12, 13, 14

## ph2-0_DIP_H_15Pin
designator CN?
2.0mm直插-水平
footprint PH2.0-WI-15P (长：31.9mm，宽：6mm，高：4.7mm)
pins: 1, 2, 3, 4, 5, 6, 7, 8, 9, 10, 11, 12, 13, 14, 15

## ph2-0_DIP_H_16Pin
designator CN?
2.0mm直插-水平
footprint PH2.0-WI-16P (长：33.9mm，宽：6mm，高：4.7mm)
pins: 1, 2, 3, 4, 5, 6, 7, 8, 9, 10, 11, 12, 13, 14, 15, 16

## ph2-0_DIP_V_2Pin
designator CN?
2.0mm直插-垂直
footprint PH2.0-LI-2P (长：5.9mm，宽：4.7mm，高：6mm)
pins: 1, 2

## ph2-0_DIP_V_3Pin
designator CN?
2.0mm直插-垂直
footprint PH2.0-LI-3P (长：7.9mm，宽：4.7mm，高：6mm)
pins: 1, 2, 3

## ph2-0_DIP_V_4Pin
designator CN?
2.0mm直插-垂直
footprint PH2.0-LI-4P (长：9.9mm，宽：4.7mm，高：6mm)
pins: 1, 2, 3, 4

## ph2-0_DIP_V_5Pin
designator CN?
2.0mm直插-垂直
footprint PH2.0-LI-5P (长：11.9mm，宽：4.7mm，高：6mm)
pins: 1, 2, 3, 4, 5

## ph2-0_DIP_V_6Pin
designator CN?
2.0mm直插-垂直
footprint PH2.0-LI-6P (长：13.9mm，宽：4.7mm，高：6mm)
pins: 1, 2, 3, 4, 5, 6

## ph2-0_DIP_V_7Pin
designator CN?
2.0mm直插-垂直
footprint PH2.0-LI-7P (长：15.9mm，宽：4.7mm，高：6mm)
pins: 1, 2, 3, 4, 5, 6, 7

## ph2-0_DIP_V_8Pin
designator CN?
2.0mm直插-垂直
footprint PH2.0-LI-8P (长：17.9mm，宽：4.7mm，高：6mm)
pins: 1, 2, 3, 4, 5, 6, 7, 8

## ph2-0_DIP_V_9Pin
designator CN?
2.0mm直插-垂直
footprint PH2.0-LI-9P (长：19.9mm，宽：4.7mm，高：6mm)
pins: 1, 2, 3, 4, 5, 6, 7, 8, 9

## ph2-0_DIP_V_10Pin
designator CN?
2.0mm直插-垂直
footprint PH2.0-LI-10P (长：21.9mm，宽：4.7mm，高：6mm)
pins: 1, 2, 3, 4, 5, 6, 7, 8, 9, 10

## ph2-0_DIP_V_11Pin
designator CN?
2.0mm直插-垂直
footprint PH2.0-LI-11P (接插件/1A)
pins: 1, 2, 3, 4, 5, 6, 7, 8, 9, 10, 11

## ph2-0_DIP_V_12Pin
designator CN?
2.0mm直插-垂直
footprint PH2.0-LI-12P (长：23.9mm，宽：4.7mm，高：6mm)
pins: 1, 2, 3, 4, 5, 6, 7, 8, 9, 10, 11, 12

## ph2-0_DIP_V_13Pin
designator CN?
2.0mm直插-垂直
footprint PH2.0-LI-13P (长：25.9mm，宽：4.7mm，高：6mm)
pins: 1, 2, 3, 4, 5, 6, 7, 8, 9, 10, 11, 12, 13

## ph2-0_DIP_V_14Pin
designator CN?
2.0mm直插-垂直
footprint PH2.0-LI-14p (长：27.9mm，宽：4.7mm，高：6mm)
pins: 1, 2, 3, 4, 5, 6, 7, 8, 9, 10, 11, 12, 13, 14

## ph2-0_DIP_V_15Pin
designator CN?
2.0mm直插-垂直
footprint PH2.0-LI-15P (长：27.9mm，宽：4.7mm，高：6mm)
pins: 1, 2, 3, 4, 5, 6, 7, 8, 9, 10, 11, 12, 13, 14, 15

## ph2-0_DIP_V_16Pin
designator CN?
2.0mm直插-垂直
footprint PH2.0-LI-16P (长：29.9mm，宽：4.7mm，高：6mm)
pins: 1, 2, 3, 4, 5, 6, 7, 8, 9, 10, 11, 12, 13, 14, 15, 16

## ph2-0_SMT_H_2Pin
designator CN?
2.0mm SMT-侧卧
footprint PH2.0-WS-2P (长：8mm，宽：7.6mm，高：5.5mm)
pins: 0, 0, 1, 2

## ph2-0_SMT_H_3Pin
designator CN?
2.0mm SMT-侧卧
footprint PH2.0-WS-3P (长：10mm，宽：7.6mm，高：5.5mm)
pins: 0, 0, 1, 2, 3

## ph2-0_SMT_H_4Pin
designator CN?
2.0mm SMT-侧卧
footprint PH2.0-WS-4P (长：12mm，宽：7.6mm，高：5.5mm)
pins: 0, 0, 1, 2, 3, 4

## ph2-0_SMT_H_5Pin
designator CN?
2.0mm SMT-侧卧
footprint PH2.0-WS-5P (长：14mm，宽：7.6mm，高：5.5mm)
pins: 0, 0, 1, 2, 3, 4, 5

## ph2-0_SMT_H_6Pin
designator CN?
2.0mm SMT-侧卧
footprint PH2.0-WS-6P (长：16mm，宽：7.6mm，高：5.5mm)
pins: 0, 0, 1, 2, 3, 4, 5, 6

## ph2-0_SMT_H_7Pin
designator CN?
2.0mm SMT-侧卧
footprint PH2.0-WS-7P (长：18mm，宽：7.6mm，高：5.5mm)
pins: 0, 0, 1, 2, 3, 4, 5, 6, 7

## ph2-0_SMT_H_8Pin
designator CN?
2.0mm SMT-侧卧
footprint PH2.0-WS-8P (长：20mm，宽：7.6mm，高：5.5mm)
pins: 0, 0, 1, 2, 3, 4, 5, 6, 7, 8

## ph2-0_SMT_H_9Pin
designator CN?
2.0mm SMT-侧卧
footprint PH2.0-WS-9P (长：22mm，宽：7.6mm，高：5.5mm)
pins: 0, 0, 1, 2, 3, 4, 5, 6, 7, 8, 9

## ph2-0_SMT_H_10Pin
designator CN?
2.0mm SMT-侧卧
footprint PH2.0-WS-10P (长：24mm，宽：7.6mm，高：5.5mm)
pins: 0, 0, 1, 2, 3, 4, 5, 6, 7, 8, 9, 10

## ph2-0_SMT_H_11Pin
designator CN?
2.0mm SMT-侧卧
footprint PH2.0-WS-11P (长：26mm，宽：7.6mm，高：5.5mm)
pins: 0, 0, 1, 2, 3, 4, 5, 6, 7, 8, 9, 10, 11

## ph2-0_SMT_H_12Pin
designator CN?
2.0mm SMT-侧卧
footprint PH2.0-WS-12P (长：28mm，宽：7.6mm，高：5.5mm)
pins: 0, 0, 1, 2, 3, 4, 5, 6, 7, 8, 9, 10, 11, 12

## ph2-0_SMT_H_13Pin
designator CN?
2.0mm SMT-侧卧
footprint PH2.0-WS-13P (长：30mm，宽：7.6mm，高：5.5mm)
pins: 0, 0, 1, 2, 3, 4, 5, 6, 7, 8, 9, 10, 11, 12, 13

## ph2-0_SMT_H_14Pin
designator CN?
2.0mm SMT-侧卧
footprint PH2.0-WS-14P (长：32mm，宽：7.6mm，高：5.5mm)
pins: 0, 0, 1, 2, 3, 4, 5, 6, 7, 8, 9, 10, 11, 12, 13, 14

## ph2-0_SMT_H_15Pin
designator CN?
2.0mm SMT-侧卧
footprint PH2.0-WS-15P (长：34mm，宽：7.6mm，高：5.5mm)
pins: 0, 0, 1, 2, 3, 4, 5, 6, 7, 8, 9, 10, 11, 12, 13, 14, 15

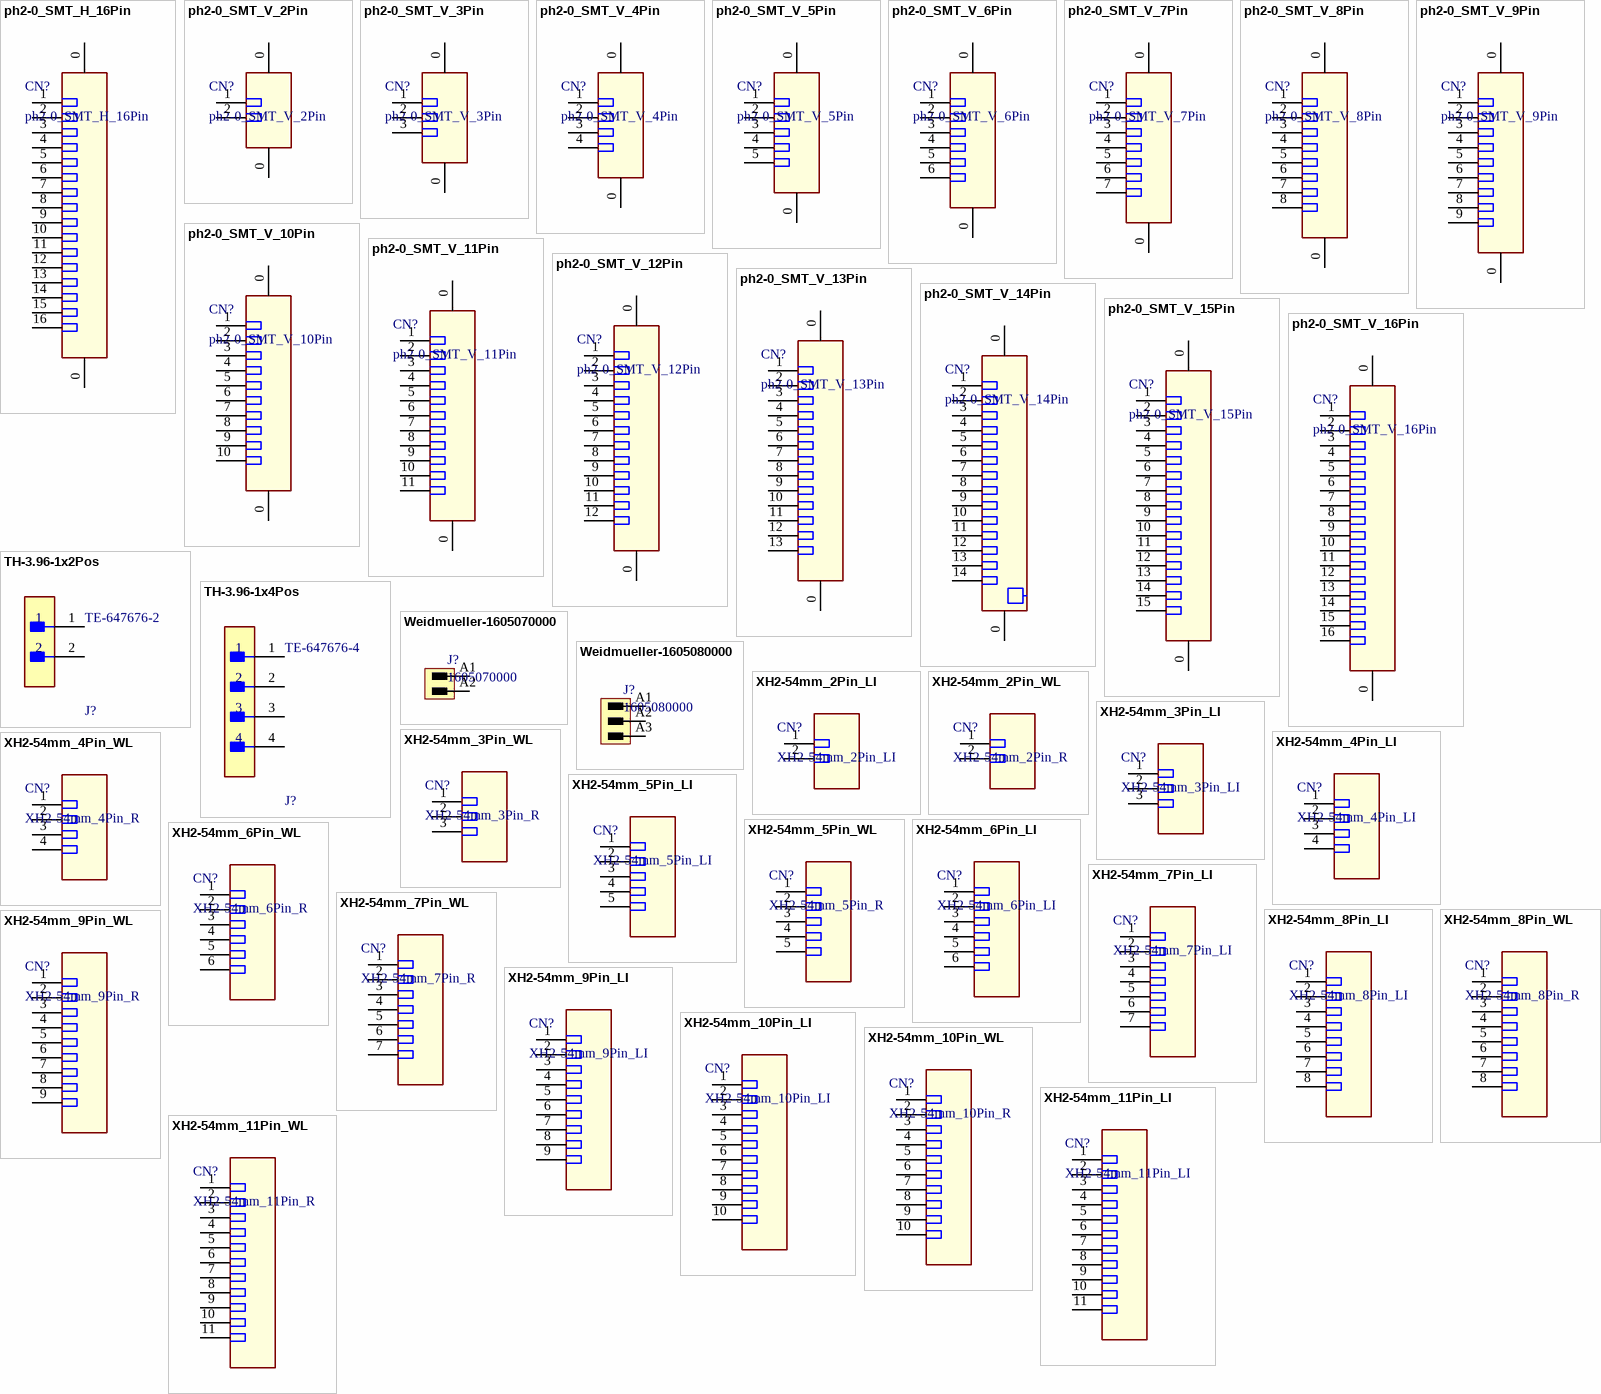
[diagram p4: symbols ph2-0_SMT_H_16Pin to XH2-54mm_11Pin_WL]

## ph2-0_SMT_H_16Pin
designator CN?
2.0mm SMT-侧卧
footprint PH2.0-WS-16P (长：36mm，宽：7.6mm，高：5.5mm)
pins: 0, 0, 1, 2, 3, 4, 5, 6, 7, 8, 9, 10, 11, 12, 13, 14, 15, 16

## ph2-0_SMT_V_2Pin
designator CN?
2.0mm SMT-垂直
footprint PH2.0-LS-2P (长：8mm，宽：5.5mm，高：6.1mm)
pins: 0, 0, 1, 2

## ph2-0_SMT_V_3Pin
designator CN?
2.0mm SMT-垂直
footprint PH2.0-LS-3P (长：10mm，宽：5.5mm，高：6.1mm)
pins: 0, 0, 1, 2, 3

## ph2-0_SMT_V_4Pin
designator CN?
2.0mm SMT-垂直
footprint PH2.0-LS-4P (长：12mm，宽：5.5mm，高：6.1mm)
pins: 0, 0, 1, 2, 3, 4

## ph2-0_SMT_V_5Pin
designator CN?
2.0mm SMT-垂直
footprint PH2.0-LS-5P (长：14mm，宽：5.5mm，高：6.1mm)
pins: 0, 0, 1, 2, 3, 4, 5

## ph2-0_SMT_V_6Pin
designator CN?
2.0mm SMT-垂直
footprint PH2.0-LS-6P (长：16mm，宽：5.5mm，高：6.1mm)
pins: 0, 0, 1, 2, 3, 4, 5, 6

## ph2-0_SMT_V_7Pin
designator CN?
2.0mm SMT-垂直
footprint PH2.0-LS-7P (长：18mm，宽：5.5mm，高：6.1mm)
pins: 0, 0, 1, 2, 3, 4, 5, 6, 7

## ph2-0_SMT_V_8Pin
designator CN?
2.0mm SMT-垂直
footprint PH2.0-LS-8P (长：20mm，宽：5.5mm，高：6.1mm)
pins: 0, 0, 1, 2, 3, 4, 5, 6, 7, 8

## ph2-0_SMT_V_9Pin
designator CN?
2.0mm SMT-垂直
footprint PH2.0-LS-9P (长：22mm，宽：5.5mm，高：6.1mm)
pins: 0, 0, 1, 2, 3, 4, 5, 6, 7, 8, 9

## ph2-0_SMT_V_10Pin
designator CN?
2.0mm SMT-垂直
footprint PH2.0-LS-10P (长：24mm，宽：5.5mm，高：6.1mm)
pins: 0, 0, 1, 2, 3, 4, 5, 6, 7, 8, 9, 10

## ph2-0_SMT_V_11Pin
designator CN?
2.0mm SMT-垂直
footprint PH2.0-LS-11P (长：26mm，宽：5.5mm，高：6.1mm)
pins: 0, 0, 1, 2, 3, 4, 5, 6, 7, 8, 9, 10, 11

## ph2-0_SMT_V_12Pin
designator CN?
2.0mm SMT-垂直
footprint PH2.0-LS-12P (长：28mm，宽：5.5mm，高：6.1mm)
pins: 0, 0, 1, 2, 3, 4, 5, 6, 7, 8, 9, 10, 11, 12

## ph2-0_SMT_V_13Pin
designator CN?
2.0mm SMT-垂直
footprint PH2.0-LS-13P (长：30mm，宽：5.5mm，高：6.1mm)
pins: 0, 0, 1, 2, 3, 4, 5, 6, 7, 8, 9, 10, 11, 12, 13

## ph2-0_SMT_V_14Pin
designator CN?
2.0mm SMT-垂直
footprint PH2.0-LS-14P (长：32mm，宽：5.5mm，高：6.1mm)
pins: 0, 0, 1, 2, 3, 4, 5, 6, 7, 8, 9, 10, 11, 12, 13, 14

## ph2-0_SMT_V_15Pin
designator CN?
2.0mm SMT-垂直
footprint PH2.0-LS-15P (长：34mm，宽：5.5mm，高：6.1mm)
pins: 0, 0, 1, 2, 3, 4, 5, 6, 7, 8, 9, 10, 11, 12, 13, 14, 15

## ph2-0_SMT_V_16Pin
designator CN?
2.0mm SMT-垂直
footprint PH2.0-LS-16P (长：36mm，宽：5.5mm，高：6.1mm)
pins: 0, 0, 1, 2, 3, 4, 5, 6, 7, 8, 9, 10, 11, 12, 13, 14, 15, 16

## TH-3.96-1x2Pos
designator J?, comment TE-647676-2
CONN HEADER R/A 2POS 3.96MM; Manufacturer: TE Connectivity; Conn Orientation: Right Angle; Conn Gender: Male; Number Of Contacts: 2; Current Rating: 7.5A; Voltage Rating: 250V; Device Class L3: unset; Device Class L1: Connectors; Height: 8.8mm; Number Of Rows: 1; ComponentLink2URL: https://www.te.com/usa-en/product-647676-2.datasheet.pdf; Category: Conn; Temperature Range High: +105°C; Temperature Range Low: -25°C; Temperature: -25°C to +105°C; Manufacturer Part Number: 647676-2; Automotive: No; Digikey Description: CONN HEADER R/A 2POS 3.96MM; Octopart: https://octopart.com/647676-2-te+connectivity-40313004; ComponentLink2Description: Datasheet; Contact Material: Tin; Lead Free: Yes; Device Class L2: Headers and Wire Housings; Pitch: 3.96mm; Footprint Url: https://www.te.com/commerce/DocumentDelivery/DDEController?Action=showdoc&DocId=Customer+Drawing%7F647676%7FB1%7Fpdf%7FEnglish%7FENG_CD_647676_B1.pdf%7F647676-2; RoHS: TRUE; Package: 647676-2; Mouser Description: Headers & Wire Housings 3.96 EP HDR ASSY 2P R/A
footprint FP-647676-2-MFG
pins: 1, 2

## TH-3.96-1x4Pos
designator J?, comment TE-647676-4
CONN HEADER R/A 4POS 3.96MM; Manufacturer: TE; Conn Gender: Male; Voltage Rating: 250V; Current Rating: 7.5A; Conn Orientation: Right Angle; Number Of Contacts: 4; Temperature: -25°C to +105°C; Temperature Range High: +105°C; ComponentLink2URL: https://www.te.com/commerce/DocumentDelivery/DDEController?Action=showdoc&DocId=Specification+Or+Standard%7F108-2297%7FB%7Fpdf%7FEnglish%7FENG_SS_108-2297_B_108-2297RevB.pdf%7F647676-6; Footprint Url: https://www.te.com/commerce/DocumentDelivery/DDEController?Action=showdoc&DocId=Customer+Drawing%7F647676%7FB1%7Fpdf%7FEnglish%7FENG_CD_647676_B1.pdf%7F647676-6; ComponentLink2Description: Datasheet; Number Of Rows: 1; Automotive: No; Lead Free: Yes; Device Class L3: unset; Manufacturer Part Number: 647676-4; Category: Conn; Contact Material: Tin; Device Class L1: Connectors; Height: 8.8mm; Mouser Description: 4 Position Single Row 3.96 mm Right Angle Header Unshrouded Male Pin Connector; Pitch: 3.96mm; Package: 647676-4; Octopart: https://octopart.com/647676-4-te+connectivity-41901901; RoHS: TRUE; Device Class L2: Headers and Wire Housings; Digikey Description: CONN HEADER R/A 4POS 3.96MM; Temperature Range Low: -25°C
footprint FP-647676-4-MFG
pins: 1, 2, 3, 4

## Weidmueller-1605070000
designator J?, comment 1605070000
series BL/SL 3.50, 2 Pos, TH,Horizotal; Manufacturer: Weidmueller; UL_94_flammability_rating: V-0; Insulating_material: PBT; Contact_material: CuSn; Side_termination_characteristic: closed side; Mounting_onto_the_PCB: Solder connection; Outgoing_elbow: 90°; No_of_poles: 2; Contact_surface: tinned; Short_text_for_material: SL 3.50/02/90G 3.2SN OR BX; Rated_current_use_group_B_UL_1059: 10 A; Rated_voltage_for_surge_voltage_class_pollution_degree_II_2: 320 V; Pitch_mm: 3.5 mm; Solder_pin_length_mm: 3.2 mm; Pitch_inch: 0.138 inch; Rated_voltage_use_group_B_UL_1059: 300 V; Rated_current_min_no_of_poles_TU_20_deg_C: 32 A; Revision: V1; ComponentLink2Description: URL Link1; ComponentLink2URL: http://catalog.weidmueller.com/catalog/Start.do?localeId=en&ObjectID=1605070000; ComponentLink1URL: http://www.weidmueller.com/; PackageReference: SL_3_50_90G_02; PartNumber: 1605070000; Qty: 100 PCS; Packaging: Box; ComponentLink1Description: Manufacturer URL; Colour: Orange
footprint SL_3_50_90G_02 (OMNIMATE Signal - Serie BL/SL 3.50  SL 3.50/02/90G 3.2)
pins: A1, A2

## Weidmueller-1605080000
designator J?, comment 1605080000
series BL/SL 3.50,2 Pos, TH,Horizotal; Manufacturer: Weidmueller; Outgoing_elbow: 90°; No_of_poles: 3; Short_text_for_material: SL 3.50/03/90G 3.2SN OR BX; Rated_current_min_no_of_poles_TU_20_deg_C: 32 A; Side_termination_characteristic: closed side; Insulating_material: PBT; Pitch_mm: 3.5 mm; Contact_surface: tinned; Contact_material: CuSn; Pitch_inch: 0.138 inch; Rated_current_use_group_B_UL_1059: 10 A; UL_94_flammability_rating: V-0; Mounting_onto_the_PCB: Solder connection; Solder_pin_length_mm: 3.2 mm; Rated_voltage_use_group_B_UL_1059: 300 V; Rated_voltage_for_surge_voltage_class_pollution_degree_II_2: 320 V; Qty: 100 PCS; ComponentLink1Description: Manufacturer URL; PackageReference: SL_3_50_90G_03; ComponentLink2URL: http://catalog.weidmueller.com/catalog/Start.do?localeId=en&ObjectID=1605080000; Revision: V1; Colour: Orange; Packaging: Box; PartNumber: 1605080000; ComponentLink2Description: URL Link1; ComponentLink1URL: http://www.weidmueller.com/
footprint SL_3_50_90G_03 (OMNIMATE Signal - Serie BL/SL 3.50  SL 3.50/03/90G 3.2)
pins: A1, A2, A3

## XH2-54mm_2Pin_LI
designator CN?
footprint XH2.54-LI-2P (接插件，2P)
pins: 1, 2

## XH2-54mm_2Pin_WL
designator CN?, comment XH2-54mm_2Pin_R
footprint XH2.54-WI-2P (接插件，2P)
pins: 1, 2

## XH2-54mm_3Pin_LI
designator CN?
footprint XH2.54-LI-3P (接插件，3P)
pins: 1, 2, 3

## XH2-54mm_3Pin_WL
designator CN?, comment XH2-54mm_3Pin_R
footprint XH2.54-WI-3P (接插件，3P)
pins: 1, 2, 3

## XH2-54mm_4Pin_LI
designator CN?
footprint XH2.54-LI-4P (接插件，4P)
pins: 1, 2, 3, 4

## XH2-54mm_4Pin_WL
designator CN?, comment XH2-54mm_4Pin_R
footprint XH2.54-WI-4P (接插件，4P)
pins: 1, 2, 3, 4

## XH2-54mm_5Pin_LI
designator CN?
footprint XH2.54-LI-5P (接插件，5P)
pins: 1, 2, 3, 4, 5

## XH2-54mm_5Pin_WL
designator CN?, comment XH2-54mm_5Pin_R
footprint XH2.54-WI-5P (接插件，5P)
pins: 1, 2, 3, 4, 5

## XH2-54mm_6Pin_LI
designator CN?
footprint XH2.54-LI-6P (接插件，6P)
pins: 1, 2, 3, 4, 5, 6

## XH2-54mm_6Pin_WL
designator CN?, comment XH2-54mm_6Pin_R
footprint XH2.54-WS-6P (长：20mm，宽：8mm，高：6.1mm)
pins: 1, 2, 3, 4, 5, 6

## XH2-54mm_7Pin_LI
designator CN?
footprint XH2.54-LI-7P (接插件，7P)
pins: 1, 2, 3, 4, 5, 6, 7

## XH2-54mm_7Pin_WL
designator CN?, comment XH2-54mm_7Pin_R
footprint XH2.54-WI-7P (接插件，7P)
pins: 1, 2, 3, 4, 5, 6, 7

## XH2-54mm_8Pin_LI
designator CN?
footprint XH2.54-LI-8P (接插件，8P)
pins: 1, 2, 3, 4, 5, 6, 7, 8

## XH2-54mm_8Pin_WL
designator CN?, comment XH2-54mm_8Pin_R
footprint XH2.54-WI-8P (接插件，8P)
pins: 1, 2, 3, 4, 5, 6, 7, 8

## XH2-54mm_9Pin_LI
designator CN?
footprint XH2.54-LI-9P (接插件，9P)
pins: 1, 2, 3, 4, 5, 6, 7, 8, 9

## XH2-54mm_9Pin_WL
designator CN?, comment XH2-54mm_9Pin_R
footprint XH2.54-WI-9P (接插件，9P)
pins: 1, 2, 3, 4, 5, 6, 7, 8, 9

## XH2-54mm_10Pin_LI
designator CN?
footprint XH2.54-LI-10P (接插件，10P)
pins: 1, 2, 3, 4, 5, 6, 7, 8, 9, 10

## XH2-54mm_10Pin_WL
designator CN?, comment XH2-54mm_10Pin_R
footprint XH2.54-WI-10P (接插件，10P)
pins: 1, 2, 3, 4, 5, 6, 7, 8, 9, 10

## XH2-54mm_11Pin_LI
designator CN?
footprint XH2.54-LI-11P (接插件，11P)
pins: 1, 2, 3, 4, 5, 6, 7, 8, 9, 10, 11

## XH2-54mm_11Pin_WL
designator CN?, comment XH2-54mm_11Pin_R
footprint XH2.54-WI-11P (接插件，11P)
pins: 1, 2, 3, 4, 5, 6, 7, 8, 9, 10, 11

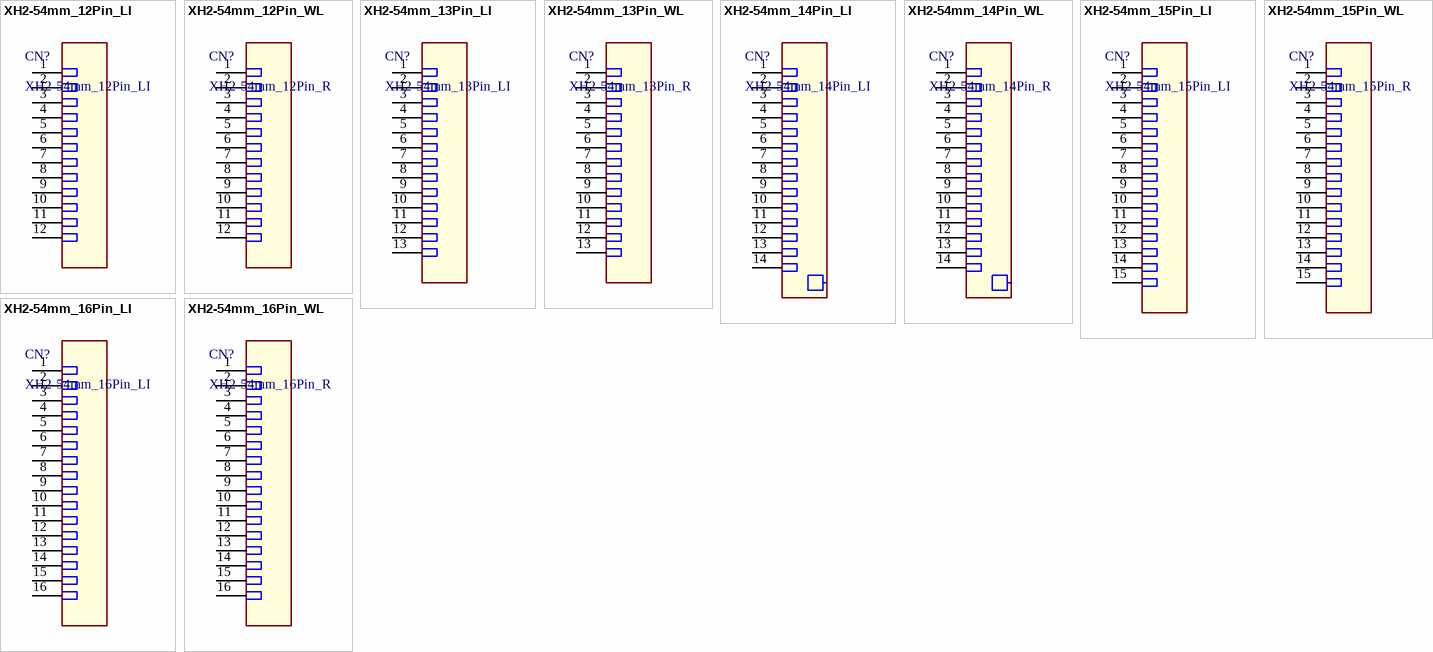
[diagram p5: symbols XH2-54mm_12Pin_LI to XH2-54mm_16Pin_WL]

## XH2-54mm_12Pin_LI
designator CN?
footprint XH2.54-LI-12P (接插件，12P)
pins: 1, 2, 3, 4, 5, 6, 7, 8, 9, 10, 11, 12

## XH2-54mm_12Pin_WL
designator CN?, comment XH2-54mm_12Pin_R
footprint XH2.54-WI-12P (接插件，12P)
pins: 1, 2, 3, 4, 5, 6, 7, 8, 9, 10, 11, 12

## XH2-54mm_13Pin_LI
designator CN?
footprint XH2.54-LI-13P (接插件，13P)
pins: 1, 2, 3, 4, 5, 6, 7, 8, 9, 10, 11, 12, 13

## XH2-54mm_13Pin_WL
designator CN?, comment XH2-54mm_13Pin_R
footprint XH2.54-WI-13P (接插件，13P)
pins: 1, 2, 3, 4, 5, 6, 7, 8, 9, 10, 11, 12, 13

## XH2-54mm_14Pin_LI
designator CN?
footprint XH2.54-LI-14P (接插件，14P)
pins: 1, 2, 3, 4, 5, 6, 7, 8, 9, 10, 11, 12, 13, 14

## XH2-54mm_14Pin_WL
designator CN?, comment XH2-54mm_14Pin_R
footprint XH2.54-WI-14P (接插件，14P)
pins: 1, 2, 3, 4, 5, 6, 7, 8, 9, 10, 11, 12, 13, 14

## XH2-54mm_15Pin_LI
designator CN?
footprint XH2.54-LI-15P (接插件，15P)
pins: 1, 2, 3, 4, 5, 6, 7, 8, 9, 10, 11, 12, 13, 14, 15

## XH2-54mm_15Pin_WL
designator CN?, comment XH2-54mm_15Pin_R
footprint XH2.54-WI-15P (接插件，15P)
pins: 1, 2, 3, 4, 5, 6, 7, 8, 9, 10, 11, 12, 13, 14, 15

## XH2-54mm_16Pin_LI
designator CN?
footprint XH2.54-LI-16P (接插件，16P)
pins: 1, 2, 3, 4, 5, 6, 7, 8, 9, 10, 11, 12, 13, 14, 15, 16

## XH2-54mm_16Pin_WL
designator CN?, comment XH2-54mm_16Pin_R
footprint XH2.54-WI-16P (接插件，16P)
pins: 1, 2, 3, 4, 5, 6, 7, 8, 9, 10, 11, 12, 13, 14, 15, 16